# EAGLE library part GKSPAPIASTRA_CONN (library 029000100  -  gKEagleLibrary)
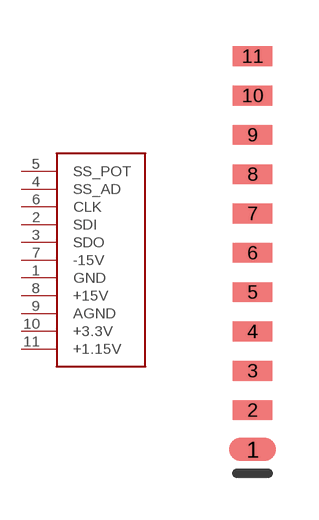
[diagram p33: symbol with the pads of GKSPAPIASTRA_CONN; footprint GKSPAPIASTRA_CONN]

Designator prefix -

## GKSPAPIASTRA_CONN  [GKSPAPIASTRA_CONN]
1  GND
2  SDI
3  SDO
4  SS_AD
5  SS_POT
6  CLK
7  -15V
8  +15V
9  AGND
10  +3.3V
11  +1.15V

## Footprint GKSPAPIASTRA_CONN (pad centres in mm)
smd 1.524 x 0.762: 1 0,0
smd 1.27 x 0.635: 2 0,1.27; 3 0,2.54; 4 0,3.81; 5 0,5.08; 6 0,6.35; 7 0,7.62; 8 0,8.89; 9 0,10.16; 10 0,11.43; 11 0,12.7